# EAGLE library part A3930 (library dan-allegro)
Allegro A3930 and A3931 Automotive 3-Phase BLDC Controller and MOSFET Driver Features and Benefits: High current 3-phase gate drive for N-channel MOSFETs Synchronous rectification Cross-conduction protection Charge pump and top-off charge pump for 100% PWM Integrated commutation decoder logic Operation over 5.5 to 50 V supply voltage range Extensive diagnostics output Provides +5 V Hall sensor power Low-current sleep mode The A3930 and A3931 are 3-phase brushless DC (BLDC) motor controllers for use with N-channel external power MOSFETs. They incorporate much of the circuitry required to design a cost effective three-phase motor drive system, and have been specifically designed for automotive applications. A key automotive requirement is functionality over a wide input supply range. A unique charge pump regulator provides adequate (>10 V) gate drive for battery voltages down to 7 V, and allows the device to operate with a reduced gate drive at battery voltages down to 5.5 V. Power dissipation in the charge pump is minimized by switching from a voltage doubling mode at low supply voltage to a dropout mode at the nominal running voltage of 14 V. A bootstrap capacitor is used to provide the above-battery supply voltage required for N-channel MOSFETs. An internal charge pump for the high-side drive allows for DC (100% duty cycle) operation. Internal fixed-frequency PWM current control circuitry can be used to regulate the maximum load current. The peak load current limit is set by the selection of an input reference voltage and external sensing resistor. The PWM frequency is set by a user-selected external RC timing network. For added flexibility, the PWM input can be used to provide speed and torque control, allowing the internal current control circuit to set the maximum current limit. Efficiency is enhanced by using synchronous rectification. The power FETs are protected from shoot-through by integrated crossover control with dead time. The dead time can be set by a single external resistor. The A3930 and A3931 only differ in their response to the combination on the Hall inputs. In this state, the A3930 indicates a logic fault, but the A3931 pre-positions the motor in an unstable starting position suitable for start-up algorithms in microprocessor- driven ?sensor-less? control systems. Both devices are supplied in a 48-pin LQFP with exposed thermal pad. This is a small footprint (81 mm2) power package, that is lead (Pb) free, with 100% matte tin leadframe plating.
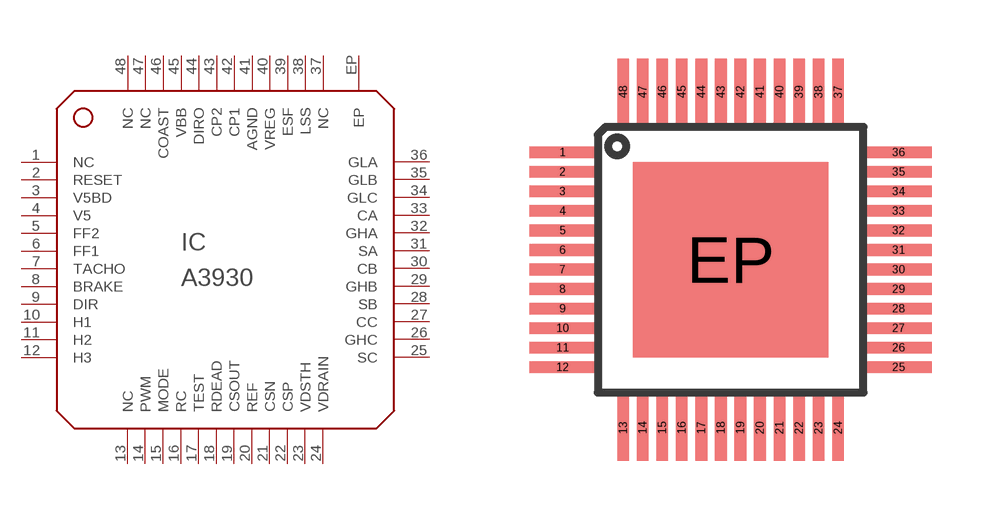
[diagram p0: symbol with the pads of LQFP-48-EP; footprint LQFP-48-EP]

Designator prefix IC

## A3930  [LQFP-48-EP]
1  NC  nc
2  RESET  in
3  V5BD
4  V5  out
5  FF2  out
6  FF1  out
7  TACHO  out
8  BRAKE  in
9  DIR  in
10  H1  in
11  H2  in
12  H3  in
13  NC  nc
14  PWM  in
15  MODE  in
16  RC
17  TEST
18  RDEAD
19  CSOUT  out
20  REF  in
21  CSN  in
22  CSP  in
23  VDSTH  in
24  VDRAIN
25  SC
26  GHC
27  CC
28  SB
29  GHB
30  CB
31  SA
32  GHA
33  CA
34  GLC
35  GLB
36  GLA
37  NC  nc
38  LSS
39  ESF  in
40  VREG
41  AGND
42  CP1
43  CP2
44  DIRO  out
45  VBB
46  COAST  in
47  NC  nc
48  NC  nc
EP  EP

## Footprint LQFP-48-EP (pad centres in mm)
LQFP-48-EP From: http://www.allegromicro.com/en/Products/Part_Numbers/3930/index.asp
smd 1.7 x 0.3: 1 -4.3,2.75; 2 -4.3,2.25; 3 -4.3,1.75; 4 -4.3,1.25; 5 -4.3,0.75; 6 -4.3,0.25; 7 -4.3,-0.25; 8 -4.3,-0.75; 9 -4.3,-1.25; 10 -4.3,-1.75; 11 -4.3,-2.25; 12 -4.3,-2.75; 25 4.3,-2.75; 26 4.3,-2.25; 27 4.3,-1.75; 28 4.3,-1.25; 29 4.3,-0.75; 30 4.3,-0.25; 31 4.3,0.25; 32 4.3,0.75; 33 4.3,1.25; 34 4.3,1.75; 35 4.3,2.25; 36 4.3,2.75
smd 0.3 x 1.7: 13 -2.75,-4.3; 14 -2.25,-4.3; 15 -1.75,-4.3; 16 -1.25,-4.3; 17 -0.75,-4.3; 18 -0.25,-4.3; 19 0.25,-4.3; 20 0.75,-4.3; 21 1.25,-4.3; 22 1.75,-4.3; 23 2.25,-4.3; 24 2.75,-4.3; 37 2.75,4.3; 38 2.25,4.3; 39 1.75,4.3; 40 1.25,4.3; 41 0.75,4.3; 42 0.25,4.3; 43 -0.25,4.3; 44 -0.75,4.3; 45 -1.25,4.3; 46 -1.75,4.3; 47 -2.25,4.3; 48 -2.75,4.3
smd 5 x 5: EP 0,0